# Altium schematic symbol library CONN_CARD.SchLib: 1 symbol
Pins are listed as number, name and electrical type; pins without a type are passive.

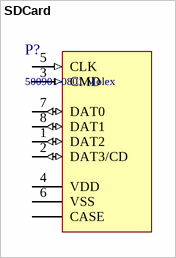
[diagram p0: symbol SDCard]

## SDCard
designator P?, comment 500901-0801 Molex
SD Card holder; Name: 500901-0801; Manufacturer: Molex
footprint Molex_5009010801 (Molex microSD-8-cf, microSD card connector)
pins: 0 CASE, 1 DAT2 (io), 2 DAT3/CD (io), 3 CMD (in), 4 VDD, 5 CLK (in), 6 VSS, 7 DAT0 (io), 8 DAT1 (io)